# EAGLE library part AD9714BCPZ (library Air_Link)
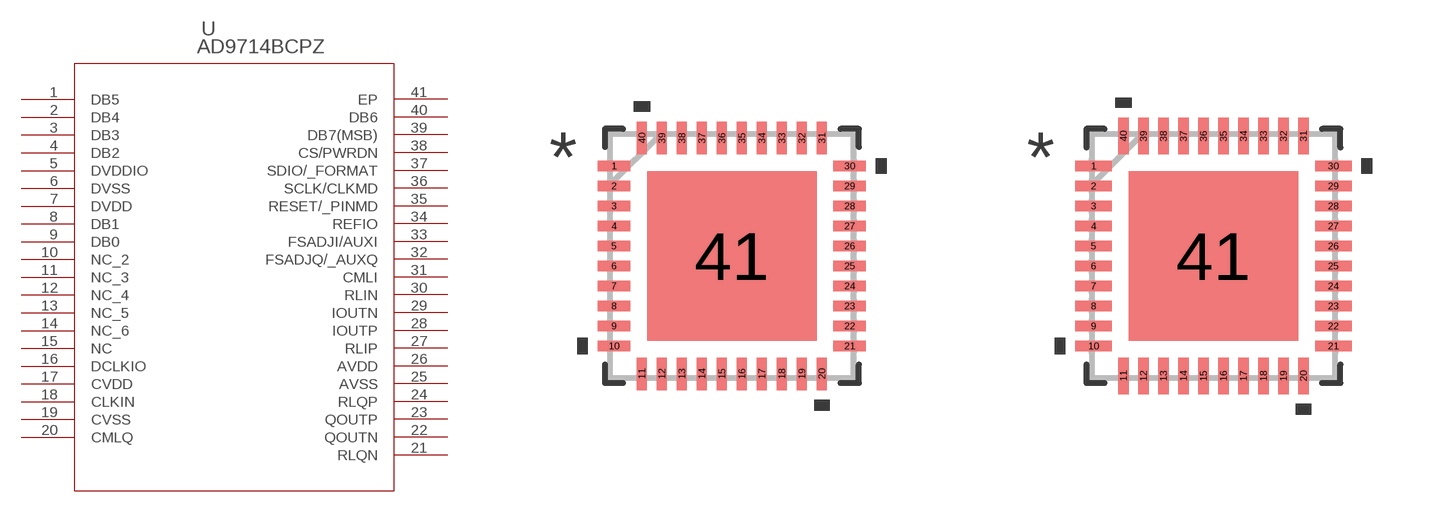
[diagram p1: symbol with the pads of CP-40-1_ADI; footprints CP-40-1_ADI, CP-40-1_ADI-M]

Designator prefix U

## AD9714BCPZ (COPYRIGHT: Copyright (C) 2025 Ultra Librarian. All rights reserved.; MANUFACTURER_PART_NUMBER: AD9714BCPZ; MFR_NAME: Analog Devices Inc)  [CP-40-1_ADI]
1  DB5  pas
2  DB4  pas
3  DB3  pas
4  DB2  pas
5  DVDDIO  pwr
6  DVSS  pas
7  DVDD  pwr
8  DB1  pas
9  DB0  pas
10  NC_2  pas
11  NC_3  pas
12  NC_4  pas
13  NC_5  pas
14  NC_6  pas
15  NC  pas
16  DCLKIO  pas
17  CVDD  pwr
18  CLKIN  pas
19  CVSS  pas
20  CMLQ  pas
21  RLQN  pas
22  QOUTN  pas
23  QOUTP  pas
24  RLQP  pas
25  AVSS  pas
26  AVDD  pwr
27  RLIP  pas
28  IOUTP  pas
29  IOUTN  pas
30  RLIN  pas
31  CMLI  pas
32  FSADJQ/_AUXQ  pas
33  FSADJI/AUXI  pas
34  REFIO  pas
35  RESET/_PINMD  pas
36  SCLK/CLKMD  pas
37  SDIO/_FORMAT  pas
38  CS/PWRDN  pas
39  DB7(MSB)  pas
40  DB6  pas
41  EP  pas

## AD9714BCPZCP-40-1_ADI-M (COPYRIGHT: Copyright (C) 2025 Ultra Librarian. All rights reserved.; MANUFACTURER_PART_NUMBER: AD9714BCPZ; MFR_NAME: Analog Devices Inc)  [CP-40-1_ADI-M]
Pads as for CP-40-1_ADI

## AD9714BCPZCP-40-1_ADI-L (COPYRIGHT: Copyright (C) 2025 Ultra Librarian. All rights reserved.; MANUFACTURER_PART_NUMBER: AD9714BCPZ; MFR_NAME: Analog Devices Inc)  [CP-40-1_ADI-L]
Pads as for CP-40-1_ADI

## Footprint CP-40-1_ADI (pad centres in mm)
smd 0.813 x 0.254: 1 -2.946,2.25; 2 -2.946,1.75; 3 -2.946,1.25; 4 -2.946,0.75; 5 -2.946,0.25; 6 -2.946,-0.25; 7 -2.946,-0.75; 8 -2.946,-1.25; 9 -2.946,-1.75; 10 -2.946,-2.25; 21 2.946,-2.25; 22 2.946,-1.75; 23 2.946,-1.25; 24 2.946,-0.75; 25 2.946,-0.25; 26 2.946,0.25; 27 2.946,0.75; 28 2.946,1.25; 29 2.946,1.75; 30 2.946,2.25
smd 0.254 x 0.813: 11 -2.25,-2.946; 12 -1.75,-2.946; 13 -1.25,-2.946; 14 -0.75,-2.946; 15 -0.25,-2.946; 16 0.25,-2.946; 17 0.75,-2.946; 18 1.25,-2.946; 19 1.75,-2.946; 20 2.25,-2.946; 31 2.25,2.946; 32 1.75,2.946; 33 1.25,2.946; 34 0.75,2.946; 35 0.25,2.946; 36 -0.25,2.946; 37 -0.75,2.946; 38 -1.25,2.946; 39 -1.75,2.946; 40 -2.25,2.946
smd 4.242 x 4.242: 41 0,0

## Footprint CP-40-1_ADI-M (pad centres in mm)
smd 0.914 x 0.254: 1 -2.997,2.25; 2 -2.997,1.75; 3 -2.997,1.25; 4 -2.997,0.75; 5 -2.997,0.25; 6 -2.997,-0.25; 7 -2.997,-0.75; 8 -2.997,-1.25; 9 -2.997,-1.75; 10 -2.997,-2.25; 21 2.997,-2.25; 22 2.997,-1.75; 23 2.997,-1.25; 24 2.997,-0.75; 25 2.997,-0.25; 26 2.997,0.25; 27 2.997,0.75; 28 2.997,1.25; 29 2.997,1.75; 30 2.997,2.25
smd 0.254 x 0.914: 11 -2.25,-2.997; 12 -1.75,-2.997; 13 -1.25,-2.997; 14 -0.75,-2.997; 15 -0.25,-2.997; 16 0.25,-2.997; 17 0.75,-2.997; 18 1.25,-2.997; 19 1.75,-2.997; 20 2.25,-2.997; 31 2.25,2.997; 32 1.75,2.997; 33 1.25,2.997; 34 0.75,2.997; 35 0.25,2.997; 36 -0.25,2.997; 37 -0.75,2.997; 38 -1.25,2.997; 39 -1.75,2.997; 40 -2.25,2.997
smd 4.242 x 4.242: 41 0,0

## Footprint CP-40-1_ADI-L (pad centres in mm)
smd 0.711 x 0.254: 1 -2.896,2.25; 2 -2.896,1.75; 3 -2.896,1.25; 4 -2.896,0.75; 5 -2.896,0.25; 6 -2.896,-0.25; 7 -2.896,-0.75; 8 -2.896,-1.25; 9 -2.896,-1.75; 10 -2.896,-2.25; 21 2.896,-2.25; 22 2.896,-1.75; 23 2.896,-1.25; 24 2.896,-0.75; 25 2.896,-0.25; 26 2.896,0.25; 27 2.896,0.75; 28 2.896,1.25; 29 2.896,1.75; 30 2.896,2.25
smd 0.254 x 0.711: 11 -2.25,-2.896; 12 -1.75,-2.896; 13 -1.25,-2.896; 14 -0.75,-2.896; 15 -0.25,-2.896; 16 0.25,-2.896; 17 0.75,-2.896; 18 1.25,-2.896; 19 1.75,-2.896; 20 2.25,-2.896; 31 2.25,2.896; 32 1.75,2.896; 33 1.25,2.896; 34 0.75,2.896; 35 0.25,2.896; 36 -0.25,2.896; 37 -0.75,2.896; 38 -1.25,2.896; 39 -1.75,2.896; 40 -2.25,2.896
smd 4.242 x 4.242: 41 0,0